# Altium footprint library Resistors.PcbLib: 18 footprints (part 2 of 2)
Each footprint in its own frame and in the unit in brackets; x right, y up, seen from the top. Pads: shape width x height; smd on the part's side, far side on the other; paste and mask are expansions set on the pad; w line width, h text height; cw(c..) or ccw(c..) is an arc to the next point about the centre after c.
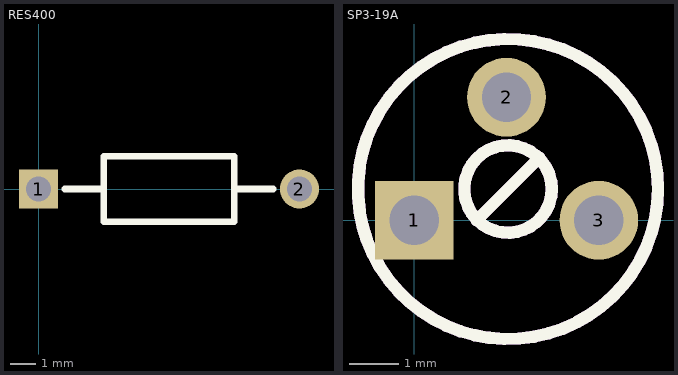
[diagram p1: the footprints below, top view; thin cyan lines are the x and y axes]

## RES400 [mil]
pads (2):
  rect 60x60 hole 38: 1(0,0)
  round 60 hole 38: 2(400,0)
Top Overlay:
  lines w10: 40,0 100,0 ; 300,0 360,0 ; 100,-50 100,50 300,50 300,-50 100,-50
Top Assembly:
  text ".Designator" at 396.79,-13.12 h39.37

## SP3-19A [mm]
pads (3):
  rect 1.6x1.6 hole 1: 1(0,0)
  round 1.6 hole 1: 2(1.875,2.5) 3(3.75,0)
Top Overlay:
  circle w0.25: c1.905,0.635 r3.048
  circle w0.25: c1.905,0.635 r0.889
  lines w0.25: 1.27,0 2.54,1.27
Mechanical 1:
  circle w0.25: c1.905,0.635 r3.048
  circle w0.25: c1.905,0.635 r0.889
  lines w0.25: 1.27,0 2.54,1.27
Top Assembly:
  text ".Designator" at 6.903,0.302 h1